# Altium footprint library STM32F103_扩展板.PcbLib: 17 footprints (part 1 of 2)
Each footprint in its own frame and in the unit in brackets; x right, y up, seen from the top. Pads: shape width x height; smd on the part's side, far side on the other; paste and mask are expansions set on the pad; w line width, h text height; cw(c..) or ccw(c..) is an arc to the next point about the centre after c.
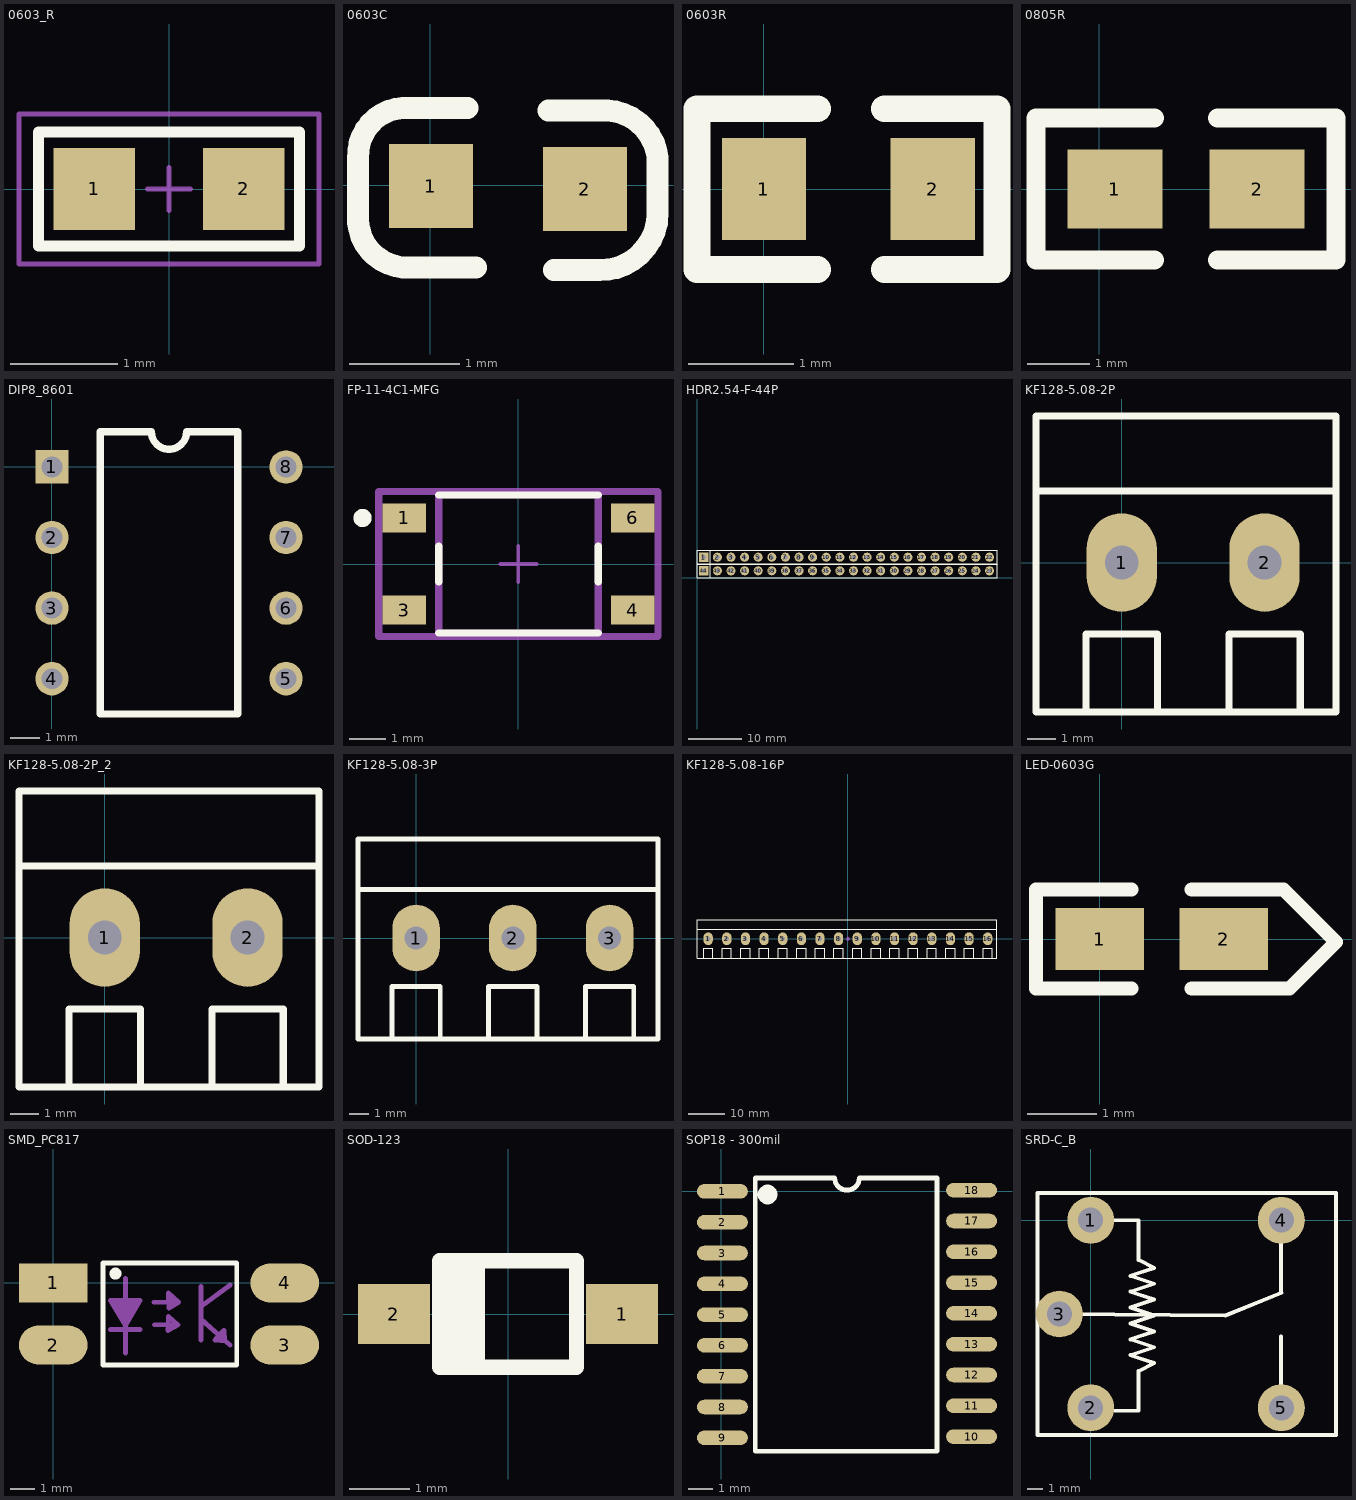
[diagram p0: the footprints below, top view; thin cyan lines are the x and y axes]

## 0603_R [mil]
pads (2):
  rect 30x30 smd: 1(-27.5,0) 2(27.5,0)
Top Overlay:
  lines w4: -48,-21 -48,21 48,21 48,-21 -48,-21
Mechanical 15:
  lines w1.97: -7.87,0 0,0 ; 0,-7.87 0,0 ; 0,7.87 0,0 ; 7.87,0 0,0 ; -55.12,-27.56 55.12,-27.56 55.12,27.56 -55.12,27.56 -55.12,-27.56
3D body: height 23.62, standoff 0, extent -23.04,-15 23.05,15
3D body: height 23.62, standoff 0, extent -34.9,-15 -23.09,15
3D body: height 23.62, standoff 0, extent 23.1,-15 34.91,15

## 0603C [mil]
pads (2):
  rect 30x30 smd: 1(0.21,-0.35) 2(55.21,-1.35)
Top Overlay:
  lines w7.87: 13.21,27.65 -9.79,27.65 ccw(c-8.79,10.65) -25.79,9.65 -25.79,-10.35 ccw(c-8.29,-11.85) -9.79,-29.35 16.21,-29.35 ; 42.21,26.65 60.21,26.65 cw(c62.21,7.65) 81.21,9.65 81.21,-10.35 cw(c60.71,-9.85) 60.21,-30.35 44.21,-30.35
3D body "0603 SMD Capacitor.STEP": height 11.89, standoff 0, extent -1.49,-14.99 61.5,16.5

## 0603R [mm]
pads (2):
  rect 0.8x0.965 smd: 1(0,0) 2(1.6,0)
Top Overlay:
  lines w0.254: 0.508,-0.762 -0.635,-0.762 -0.635,0.762 0.508,0.762 ; 1.143,-0.762 2.21,-0.762 2.21,0.762 1.143,0.762
3D body "RES0603.STEP": height 0.45, standoff 0, extent -0.038,-0.41 1.562,0.41

## 0805R [mil]
pads (2):
  rect 60x50 smd: 1(10,0) 2(100,0)
Top Overlay:
  lines w12: 35,-45 -40,-45 -40,45 35,45 ; 75,-45 150,-45 150,45 75,45
3D body "RES0805.STEP": height 15, standoff -1.14, extent 11.26,-24.6 90,24.61

## DIP8_8601 [mil]
pads (8):
  rect 45x45 hole 28: 1(0,0)
  round 45 hole 28: 2(0,-95) 3(0,-190) 4(0,-285) 5(315,-285) 6(315,-190) 7(315,-95) 8(315,0)
Top Overlay:
  lines w10: 65,-332.5 250,-332.5 250,47.5 181.25,47.5 cw(c157.5,47.5) 133.75,47.5 65,47.5 65,-332.5

## FP-11-4C1-MFG [mm]
pads (4):
  rect 1.2x0.8 smd paste+0 mask+0: 1(-3.15,1.27) 3(-3.15,-1.27) 4(3.15,-1.27) 6(3.15,1.27)
Top Overlay:
  circle w0.25: c-4.3,1.27 r0.125
  lines w0.2: -2.2,-1.9 2.2,-1.9 ; -2.2,-0.495 -2.2,0.495 ; -2.2,1.9 2.2,1.9 ; 2.2,-0.495 2.2,0.495
Top 3D Body:
  lines w0.2: -2.2,-1.9 2.2,-1.9 2.2,1.9 -2.2,1.9 -2.2,-1.9
Top Courtyard:
  lines w0.2: -3.85,-2 3.85,-2 3.85,2 -3.85,2 -3.85,-2
Top Assembly:
  lines w0.2: -3.85,-2 3.85,-2 3.85,2 -3.85,2 -3.85,-2
  text ".Designator" at 0,0.188 h1
Top Component Center:
  lines w0.1: -0.5,0 0.5,0 ; 0,-0.5 0,0.5
3D body "Trans_Toshiba_TLP181_GB_eec.STEP": height 0.25, standoff 0, extent -3.85,-2 3.85,2

## HDR2.54-F-44P [mm]
pads (44):
  rect 1.7x1.7 hole 0.9: 1(1.27,3.81) 44(1.27,1.27)
  round 1.7 hole 0.9: 2(3.81,3.81) 3(6.35,3.81) 4(8.89,3.81) 5(11.43,3.81) 6(13.97,3.81) 7(16.51,3.81) 8(19.05,3.81) 9(21.59,3.81) 10(24.13,3.81) 11(26.67,3.81) 12(29.21,3.81) 13(31.75,3.81) 14(34.29,3.81) 15(36.83,3.81) 16(39.37,3.81) 29(39.37,1.27) 30(36.83,1.27) 31(34.29,1.27) 32(31.75,1.27) 33(29.21,1.27) 34(26.67,1.27) 35(24.13,1.27) 36(21.59,1.27) 37(19.05,1.27) 38(16.51,1.27) 39(13.97,1.27) 40(11.43,1.27) 41(8.89,1.27) 42(6.35,1.27) 43(3.81,1.27)
  round 1.7 hole 0.762: 17(41.91,3.81) 18(44.45,3.81) 19(46.99,3.81) 20(49.53,3.81) 21(52.07,3.81) 22(54.61,3.81) 23(54.61,1.27) 24(52.07,1.27) 25(49.53,1.27) 26(46.99,1.27) 27(44.45,1.27) 28(41.91,1.27)
Top Overlay:
  lines w0.2: 2.52,0.02 2.52,2.52 ; 2.52,2.56 2.52,5.06 ; 56.007,2.54 56.005,2.542 0,2.542 0,0 56.007,0 56.007,2.54 ; 56.007,2.54 56.007,5.08 1.905,5.08 0,5.08 0,2.54 1.905,2.54 56.007,2.54
3D body "HDR2.54-1P_M.STEP": height 8.5, standoff -3, extent 50.8,0 53.34,2.54
3D body "HDR2.54-1P_M.STEP": height 8.5, standoff -3, extent 53.34,0 55.88,2.54
3D body "HDR2.54-1P_M.STEP": height 8.5, standoff -3, extent 50.8,2.54 53.34,5.08
3D body "HDR2.54-1P_M.STEP": height 8.5, standoff -3, extent 53.34,2.54 55.88,5.08
3D body "HDR2.54-1P_M.STEP": height 8.5, standoff -3, extent 38.1,0 40.64,2.54
3D body "HDR2.54-1P_M.STEP": height 8.5, standoff -3, extent 40.64,0 43.18,2.54
3D body "HDR2.54-1P_M.STEP": height 8.5, standoff -3, extent 43.18,0 45.72,2.54
3D body "HDR2.54-1P_M.STEP": height 8.5, standoff -3, extent 45.72,0 48.26,2.54
3D body "HDR2.54-1P_M.STEP": height 8.5, standoff -3, extent 48.26,0 50.8,2.54
3D body "HDR2.54-1P_M.STEP": height 8.5, standoff -3, extent 25.4,0 27.94,2.54
3D body "HDR2.54-1P_M.STEP": height 8.5, standoff -3, extent 27.94,0 30.48,2.54
3D body "HDR2.54-1P_M.STEP": height 8.5, standoff -3, extent 30.48,0 33.02,2.54
3D body "HDR2.54-1P_M.STEP": height 8.5, standoff -3, extent 33.02,0 35.56,2.54
3D body "HDR2.54-1P_M.STEP": height 8.5, standoff -3, extent 35.56,0 38.1,2.54
3D body "HDR2.54-1P_M.STEP": height 8.5, standoff -3, extent 12.7,0 15.24,2.54
3D body "HDR2.54-1P_M.STEP": height 8.5, standoff -3, extent 15.24,0 17.78,2.54
3D body "HDR2.54-1P_M.STEP": height 8.5, standoff -3, extent 17.78,0 20.32,2.54
3D body "HDR2.54-1P_M.STEP": height 8.5, standoff -3, extent 20.32,0 22.86,2.54
3D body "HDR2.54-1P_M.STEP": height 8.5, standoff -3, extent 22.86,0 25.4,2.54
3D body "HDR2.54-1P_M.STEP": height 8.5, standoff -3, extent 0,0 2.54,2.54
3D body "HDR2.54-1P_M.STEP": height 8.5, standoff -3, extent 2.54,0 5.08,2.54
3D body "HDR2.54-1P_M.STEP": height 8.5, standoff -3, extent 5.08,0 7.62,2.54
3D body "HDR2.54-1P_M.STEP": height 8.5, standoff -3, extent 7.62,0 10.16,2.54
3D body "HDR2.54-1P_M.STEP": height 8.5, standoff -3, extent 10.16,0 12.7,2.54
3D body "HDR2.54-1P_M.STEP": height 8.5, standoff -3, extent 38.1,2.54 40.64,5.08
3D body "HDR2.54-1P_M.STEP": height 8.5, standoff -3, extent 40.64,2.54 43.18,5.08
3D body "HDR2.54-1P_M.STEP": height 8.5, standoff -3, extent 43.18,2.54 45.72,5.08
3D body "HDR2.54-1P_M.STEP": height 8.5, standoff -3, extent 45.72,2.54 48.26,5.08
3D body "HDR2.54-1P_M.STEP": height 8.5, standoff -3, extent 48.26,2.54 50.8,5.08
3D body "HDR2.54-1P_M.STEP": height 8.5, standoff -3, extent 25.4,2.54 27.94,5.08
3D body "HDR2.54-1P_M.STEP": height 8.5, standoff -3, extent 27.94,2.54 30.48,5.08
3D body "HDR2.54-1P_M.STEP": height 8.5, standoff -3, extent 30.48,2.54 33.02,5.08
3D body "HDR2.54-1P_M.STEP": height 8.5, standoff -3, extent 33.02,2.54 35.56,5.08
3D body "HDR2.54-1P_M.STEP": height 8.5, standoff -3, extent 35.56,2.54 38.1,5.08
3D body "HDR2.54-1P_M.STEP": height 8.5, standoff -3, extent 12.7,2.54 15.24,5.08
3D body "HDR2.54-1P_M.STEP": height 8.5, standoff -3, extent 15.24,2.54 17.78,5.08
3D body "HDR2.54-1P_M.STEP": height 8.5, standoff -3, extent 17.78,2.54 20.32,5.08
3D body "HDR2.54-1P_M.STEP": height 8.5, standoff -3, extent 20.32,2.54 22.86,5.08
3D body "HDR2.54-1P_M.STEP": height 8.5, standoff -3, extent 22.86,2.54 25.4,5.08
3D body "HDR2.54-1P_M.STEP": height 8.5, standoff -3, extent 0,2.54 2.54,5.08
3D body "HDR2.54-1P_M.STEP": height 8.5, standoff -3, extent 2.54,2.54 5.08,5.08
3D body "HDR2.54-1P_M.STEP": height 8.5, standoff -3, extent 5.08,2.54 7.62,5.08
3D body "HDR2.54-1P_M.STEP": height 8.5, standoff -3, extent 7.62,2.54 10.16,5.08
3D body "HDR2.54-1P_M.STEP": height 8.5, standoff -3, extent 10.16,2.54 12.7,5.08

## KF128-5.08-2P [mm]
pads (2):
  oval 2.5x3.5 hole 1.2: 1(0,0) 2(5.08,0)
Top Overlay:
  lines w0.254: -3.048,2.54 7.62,2.54 ; -1.27,-5.309 -1.27,-2.54 1.27,-2.54 1.27,-5.309 ; 3.81,-5.309 3.81,-2.54 6.35,-2.54 6.35,-5.309 ; -3.048,-5.309 7.62,-5.309 7.62,5.207 -3.048,5.207 -3.048,-5.309
3D body "KF128-5.08-.STEP": height 14.15, standoff -3.95, extent 2.032,-5.377 7.612,5.123
3D body "KF128-5.08-.STEP": height 14.15, standoff -3.95, extent -3.048,-5.377 2.532,5.123

## KF128-5.08-2P_2 [mm]
pads (2):
  oval 2.5x3.5 hole 1.2: 1(0,0) 2(5.08,0)
Top Overlay:
  lines w0.254: -3.048,2.54 7.62,2.54 ; -1.27,-5.309 -1.27,-2.54 1.27,-2.54 1.27,-5.309 ; 3.81,-5.309 3.81,-2.54 6.35,-2.54 6.35,-5.309 ; -3.048,-5.309 7.62,-5.309 7.62,5.207 -3.048,5.207 -3.048,-5.309
3D body "KF128-5.08-.STEP": height 14.15, standoff -3.95, extent 2.032,-5.377 7.612,5.123
3D body "KF128-5.08-.STEP": height 14.15, standoff -3.95, extent -3.048,-5.377 2.532,5.123

## KF128-5.08-3P [mm]
pads (3):
  oval 2.5x3.5 hole 1.2: 1(0,0) 2(5.08,0) 3(10.16,0)
Top Overlay:
  lines w0.254: -3.048,2.54 12.7,2.54 ; -1.27,-5.309 -1.27,-2.54 1.27,-2.54 1.27,-5.309 ; 3.81,-5.309 3.81,-2.54 6.35,-2.54 6.35,-5.309 ; 8.89,-5.309 8.89,-2.54 11.43,-2.54 11.43,-5.309 ; -3.048,-5.309 12.7,-5.309 12.7,5.207 -3.048,5.207 -3.048,-5.309
3D body "KF128-5.08-.STEP": height 14.15, standoff -3.95, extent 7.112,-5.377 12.692,5.123
3D body "KF128-5.08-.STEP": height 14.15, standoff -3.95, extent 2.032,-5.377 7.612,5.123
3D body "KF128-5.08-.STEP": height 14.15, standoff -3.95, extent -3.048,-5.377 2.532,5.123

## KF128-5.08-16P [mm]
pads (16):
  oval 2.5x3.5 hole 1.2: 1(-38.1,0) 2(-33.02,0) 3(-27.94,0) 4(-22.86,0) 5(-17.78,0) 6(-12.7,0) 7(-7.62,0) 8(-2.54,0) 9(2.54,0) 10(7.62,0) 11(12.7,0) 12(17.78,0) 13(22.86,0) 14(27.94,0) 15(33.02,0) 16(38.1,0)
Top Overlay:
  lines w0.254: -41.148,2.54 40.64,2.54 ; -39.37,-5.309 -39.37,-2.54 -36.83,-2.54 -36.83,-5.309 ; -34.29,-5.309 -34.29,-2.54 -31.75,-2.54 -31.75,-5.309 ; -29.21,-5.309 -29.21,-2.54 -26.67,-2.54 -26.67,-5.309 ; -24.13,-5.309 -24.13,-2.54 -21.59,-2.54 -21.59,-5.309 ; -19.05,-5.309 -19.05,-2.54 -16.51,-2.54 -16.51,-5.309 ; -13.97,-5.309 -13.97,-2.54 -11.43,-2.54 -11.43,-5.309 ; -8.89,-5.309 -8.89,-2.54 -6.35,-2.54 -6.35,-5.309 ; -3.81,-5.309 -3.81,-2.54 -1.27,-2.54 -1.27,-5.309 ; 1.27,-5.309 1.27,-2.54 3.81,-2.54 3.81,-5.309 ; 6.35,-5.309 6.35,-2.54 8.89,-2.54 8.89,-5.309 ; 11.43,-5.309 11.43,-2.54 13.97,-2.54 13.97,-5.309 ; 16.51,-5.309 16.51,-2.54 19.05,-2.54 19.05,-5.309 ; 21.59,-5.309 21.59,-2.54 24.13,-2.54 24.13,-5.309 ; 26.67,-5.309 26.67,-2.54 29.21,-2.54 29.21,-5.309 ; 31.75,-5.309 31.75,-2.54 34.29,-2.54 34.29,-5.309 ; 36.83,-5.309 36.83,-2.54 39.37,-2.54 39.37,-5.309 ; -41.148,-5.309 -41.148,5.207 40.64,5.207 40.64,-5.309 -41.148,-5.309
Mechanical 15:
  circle w0.05: c0,0 r0.35
  lines w0.05: -0.5,0 0.5,0 ; 0,-0.5 0,0.5
3D body "KF128-5.08.STEP": height 14.15, standoff -3.95, extent 35.06,-5.3 40.64,5.2
3D body "KF128-5.08.STEP": height 14.15, standoff -3.95, extent 24.9,-5.3 30.48,5.2
3D body "KF128-5.08.STEP": height 14.15, standoff -3.95, extent 14.74,-5.3 20.32,5.2
3D body "KF128-5.08.STEP": height 14.15, standoff -3.95, extent 4.58,-5.3 10.16,5.2
3D body "KF128-5.08.STEP": height 14.15, standoff -3.95, extent -5.58,-5.3 0,5.2
3D body "KF128-5.08.STEP": height 14.15, standoff -3.95, extent -15.74,-5.3 -10.16,5.2
3D body "KF128-5.08.STEP": height 14.15, standoff -3.95, extent -30.98,-5.3 -25.4,5.2
3D body "KF128-5.08.STEP": height 14.15, standoff -3.95, extent -41.14,-5.3 -35.56,5.2
3D body "KF128-5.08.STEP": height 14.15, standoff -3.95, extent -36.06,-5.3 -30.48,5.2
3D body "KF128-5.08.STEP": height 14.15, standoff -3.95, extent -25.9,-5.3 -20.32,5.2
3D body "KF128-5.08.STEP": height 14.15, standoff -3.95, extent -20.82,-5.3 -15.24,5.2
3D body "KF128-5.08.STEP": height 14.15, standoff -3.95, extent -10.66,-5.3 -5.08,5.2
3D body "KF128-5.08.STEP": height 14.15, standoff -3.95, extent -0.5,-5.3 5.08,5.2
3D body "KF128-5.08.STEP": height 14.15, standoff -3.95, extent 9.66,-5.3 15.24,5.2
3D body "KF128-5.08.STEP": height 14.15, standoff -3.95, extent 19.82,-5.3 25.4,5.2
3D body "KF128-5.08.STEP": height 14.15, standoff -3.95, extent 29.98,-5.3 35.56,5.2

## LED-0603G [mil]
pads (2):
  rect 50x35 smd: 1(0,0.26) 2(70,0.26)
Top Overlay:
  lines w8: 18,-27.74 -36,-27.74 -36,-25.74 -36,28.26 -35,28.26 18,28.26 ; 52,-27.74 107.26,-27.74 133.5,-1.5 103.75,28.26 52,28.26
3D body "17.STEP": height 23.82, standoff -0.04, extent 3.5,-15 66.5,16.58

## SMD_PC817 [mm]
pads (4):
  rect 2.8x1.6 smd mask+0: 1(0,0)
  oval 2.8x1.6 smd mask+0: 2(0,-2.54) 3(9.452,-2.54) 4(9.452,0)
Top Overlay:
  circle w0.3: c2.54,0.381 r0.096
  lines w0.2: 2.032,-3.36 7.493,-3.36 7.493,0.82 2.032,0.82 2.032,-3.36
Mechanical 2:
  lines w0.127: -0.375,-3.137 -0.375,-1.943 0.293,-1.943 0.293,-3.137 -0.375,-3.137 ; -0.375,-0.597 -0.375,0.597 0.293,0.597 0.293,-0.597 -0.375,-0.597 ; 9.116,-3.137 9.116,-1.943 9.785,-1.943 9.785,-3.137 9.116,-3.137 ; 9.116,-0.597 9.116,0.597 9.785,0.597 9.785,-0.597 9.116,-0.597
Mechanical 3:
  rectangle: 2.673,-1.101 3.321,-0.727
  region: 3.005,-1.551 3.485,-0.836 3.189,-0.638 2.71,-1.353
  region: 2.309,-0.843 2.747,-1.457 3.036,-1.251 2.598,-0.636
  lines w0.2: 2.335,-1.9 3.545,-1.91 ; 2.952,-2.86 2.952,0.188 ; 4.105,-0.79 5.125,-0.79 ; 4.135,-1.71 5.095,-1.71 ; 4.705,-0.79 4.695,-0.41 5.125,-0.79 ; 4.879,-0.573 4.735,-0.79 4.715,-1.03 5.125,-0.79 ; 6.026,-2.33 6.026,-0.14 ; 6.026,-1.48 7.229,-2.547 ; 6.026,-0.96 7.225,-0.081 ; 7.005,-2.348 6.965,-1.94 6.763,-2.134 6.605,-2.34 7.029,-2.37 ; 5.095,-1.71 4.685,-1.94 4.695,-1.71 4.695,-1.38 5.095,-1.71 ; 2.343,-0.727 2.952,-1.743 3.536,-0.727 2.343,-0.727
3D body "SMD-PC817.STEP": height 3.85, standoff 0, extent -0.301,-3.56 9.699,1.02

## SOD-123 [mm]
pads (2):
  rect 1.2x1 smd: 1(1.905,0) 2(-1.905,0)
Top Overlay:
  rectangle: -1.143,-0.889 -0.508,0.889
  lines w0.254: -0.508,-0.889 -0.508,0.889 ; -1.143,-0.889 1.143,-0.889 1.143,0.889 -1.143,0.889 -1.143,-0.889

## SOP18 - 300mil [mm]
pads (18):
  oval 2.1x0.6 smd: 1(0.046,0) 2(0.046,-1.27) 3(0.046,-2.54) 4(0.046,-3.81) 5(0.046,-5.08) 6(0.046,-6.35) 7(0.046,-7.62) 8(0.046,-8.89) 9(0.046,-10.16) 10(10.317,-10.109) 11(10.317,-8.839) 12(10.317,-7.569) 13(10.317,-6.299) 14(10.317,-5.029) 15(10.317,-3.759) 16(10.317,-2.489) 17(10.317,-1.219) 18(10.317,0.051)
Top Overlay:
  circle w0.5: c1.905,-0.127 r0.155
  lines w0.2: 1.397,0.555 1.397,-10.715 8.897,-10.715 ; 8.89,-10.715 8.89,0.555
  lines w0.203: 1.397,0.555 4.674,0.555 ; 4.674,0.559 ccw(c5.182,0.559) 5.182,0.051 ccw(c5.182,0.559) 5.69,0.559 ; 5.69,0.555 8.89,0.555

## SRD-C_B [mm]
pads (5):
  round 3 hole 1.6: 1(0,0) 2(0,-12) 3(-2,-6) 4(12.2,0) 5(12.2,-12)
Top Overlay:
  lines w0.254: -2,-6 8.636,-6.096 12.22,-4.64 ; 1.524,-12.192 3.048,-12.192 3.048,-10.668 3.048,-9.652 4.064,-9.144 2.54,-8.636 4.064,-8.128 2.54,-7.62 4.064,-7.112 2.54,-6.604 4.064,-6.096 2.54,-5.588 4.064,-5.08 2.54,-4.572 4.064,-4.064 2.54,-3.556 4.064,-3.048 3.048,-2.54 3.048,0 1.524,0 ; 12.192,-10.668 12.192,-8.636 ; 12.192,-9.144 12.192,-7.429 ; 12.192,-4.572 12.192,-1.524 ; -3.4,-13.75 -3.4,1.75 15.7,1.75 15.7,-13.75 -3.4,-13.75
3D body "SRD-C_B-.STEP": height 15.6, standoff -3.4, extent -3.327,-13.849 15.773,1.651